# EAGLE library part 6120XX22121_61206022121 (library con-wurth-board-header)
WR-BHD 2.54 mm Male Box Header with short lever KIND PROPERTIES: Pitch 2.54 mm Gender:Male MATERIAL PROPERTIES: Insulator Material:PBT Insulator Flammability Rating UL94 V-0 Insulator Color:Black Contact Material :Copper Alloy Contact Plating :Gold Contact Type: Stamped GENERAL INFORMATION: Operating Temperature:-40 °C up to +125 °C Compliance:RoHS Working Voltage: 250 V (AC) Withstanding Voltage:500 V (AC) Contact Resistance: 20 mΩ Insulation Resistance:1000 MΩ PACKAGING PROPERTIES Packaging :Tray <https://www.we-online.de/katalog/media/o77864v209%20Family_61201022821.jpg> Details see: https://www.we-online.de/katalog/en/em/BHD_2_54_MALE_BOX_HEADER_WITH_SHORT_LEVER_6120XX22021 Updated by Yingchun,Shan 2019-10-30 2019 (C) Würth Elektronik
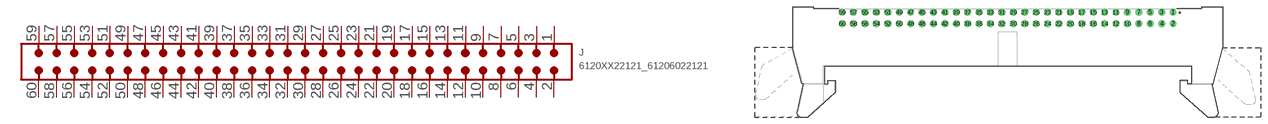
[diagram p209: symbol with the pads of 61206022121; footprint 61206022121]

Designator prefix J

## 6120XX22121_61206022121 (CONTACT-RESISTANCE: 20mOhm; DATASHEET-URL: https://www.we-online.com/redexpert/spec/61206022121?ae; GENDER: Male; IR: 3A; LENGTH: 95.7mm; MOUNT: THT; PACKAGING: Tray; PART-NUMBER: 61206022121; PINS: 60; PITCH: 2.54mm; TYPE: Angled; VALUE: 61206022121; WORKING-VOLTAGE: 250V(AC))  [61206022121]
1  1  pas
2  2  pas
3  3  pas
4  4  pas
5  5  pas
6  6  pas
7  7  pas
8  8  pas
9  9  pas
10  10  pas
11  11  pas
12  12  pas
13  13  pas
14  14  pas
15  15  pas
16  16  pas
17  17  pas
18  18  pas
19  19  pas
20  20  pas
21  21  pas
22  22  pas
23  23  pas
24  24  pas
25  25  pas
26  26  pas
27  27  pas
28  28  pas
29  29  pas
30  30  pas
31  31  pas
32  32  pas
33  33  pas
34  34  pas
35  35  pas
36  36  pas
37  37  pas
38  38  pas
39  39  pas
40  40  pas
41  41  pas
42  42  pas
43  43  pas
44  44  pas
45  45  pas
46  46  pas
47  47  pas
48  48  pas
49  49  pas
50  50  pas
51  51  pas
52  52  pas
53  53  pas
54  54  pas
55  55  pas
56  56  pas
57  57  pas
58  58  pas
59  59  pas
60  60  pas

## Footprint 61206022121 (pad centres in mm)
WR-BHD 2.54 mm Male Angled Box Header with short lever, 60 Pins
drill 1.02: 1 36.83,7.36; 2 36.83,4.82; 3 34.29,7.36; 4 34.29,4.82; 5 31.75,7.36; 6 31.75,4.82; 7 29.21,7.36; 8 29.21,4.82; 9 26.67,7.36; 10 26.67,4.82; 11 24.13,7.36; 12 24.13,4.82; 13 21.59,7.36; 14 21.59,4.82; 15 19.05,7.36; 16 19.05,4.82; 17 16.51,7.36; 18 16.51,4.82; 19 13.97,7.36; 20 13.97,4.82; 21 11.43,7.36; 22 11.43,4.82; 23 8.89,7.36; 24 8.89,4.82; 25 6.35,7.36; 26 6.35,4.82; 27 3.81,7.36; 28 3.81,4.82; 29 1.27,7.36; 30 1.27,4.82; 31 -1.27,7.36; 32 -1.27,4.82; 33 -3.81,7.36; 34 -3.81,4.82; 35 -6.35,7.36; 36 -6.35,4.82; 37 -8.89,7.36; 38 -8.89,4.82; 39 -11.43,7.36; 40 -11.43,4.82; 41 -13.97,7.36; 42 -13.97,4.82; 43 -16.51,7.36; 44 -16.51,4.82; 45 -19.05,7.36; 46 -19.05,4.82; 47 -21.59,7.36; 48 -21.59,4.82; 49 -24.13,7.36; 50 -24.13,4.82; 51 -26.67,7.36; 52 -26.67,4.82; 53 -29.21,7.36; 54 -29.21,4.82; 55 -31.75,7.36; 56 -31.75,4.82; 57 -34.29,7.36; 58 -34.29,4.82; 59 -36.83,7.36; 60 -36.83,4.82